# EAGLE library part DC-DC-CON_12-24 (library DC-DC-CONVERTER 12-24v (2))
DC-DC-CONVERTER 12-24V
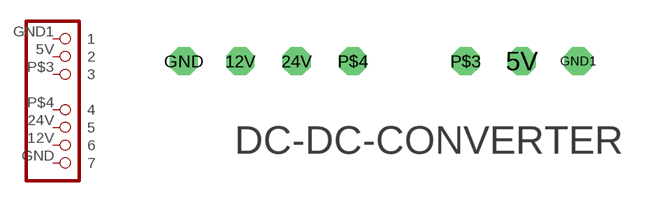
[diagram p0: symbol with the pads of DC-DC-CON_12-24; footprint DC-DC-CON_12-24]

Designator prefix DC-DC-CON_12-24

## DC-DC-CON_12-24  [DC-DC-CON_12-24]
5V  2
12V  6
24V  5
GND  7
GND1  1
P$3  3
P$4  4

## Footprint DC-DC-CON_12-24 (pad centres in mm)
DC-DC-CONVERTER 12-24v
drill 0.6 pad 1.27 octagon: 5V 17.272,2.667; 12V 4.572,2.667; 24V 7.112,2.667; GND 2.032,2.667; GND1 19.812,2.667; P$3 14.732,2.667; P$4 9.652,2.667